# Altium footprint library Capacitor_THT.PcbLib: 378 footprints (part 4 of 24)
Each footprint in its own frame and in the unit in brackets; x right, y up, seen from the top. Pads: shape width x height; smd on the part's side, far side on the other; paste and mask are expansions set on the pad; w line width, h text height; cw(c..) or ccw(c..) is an arc to the next point about the centre after c.
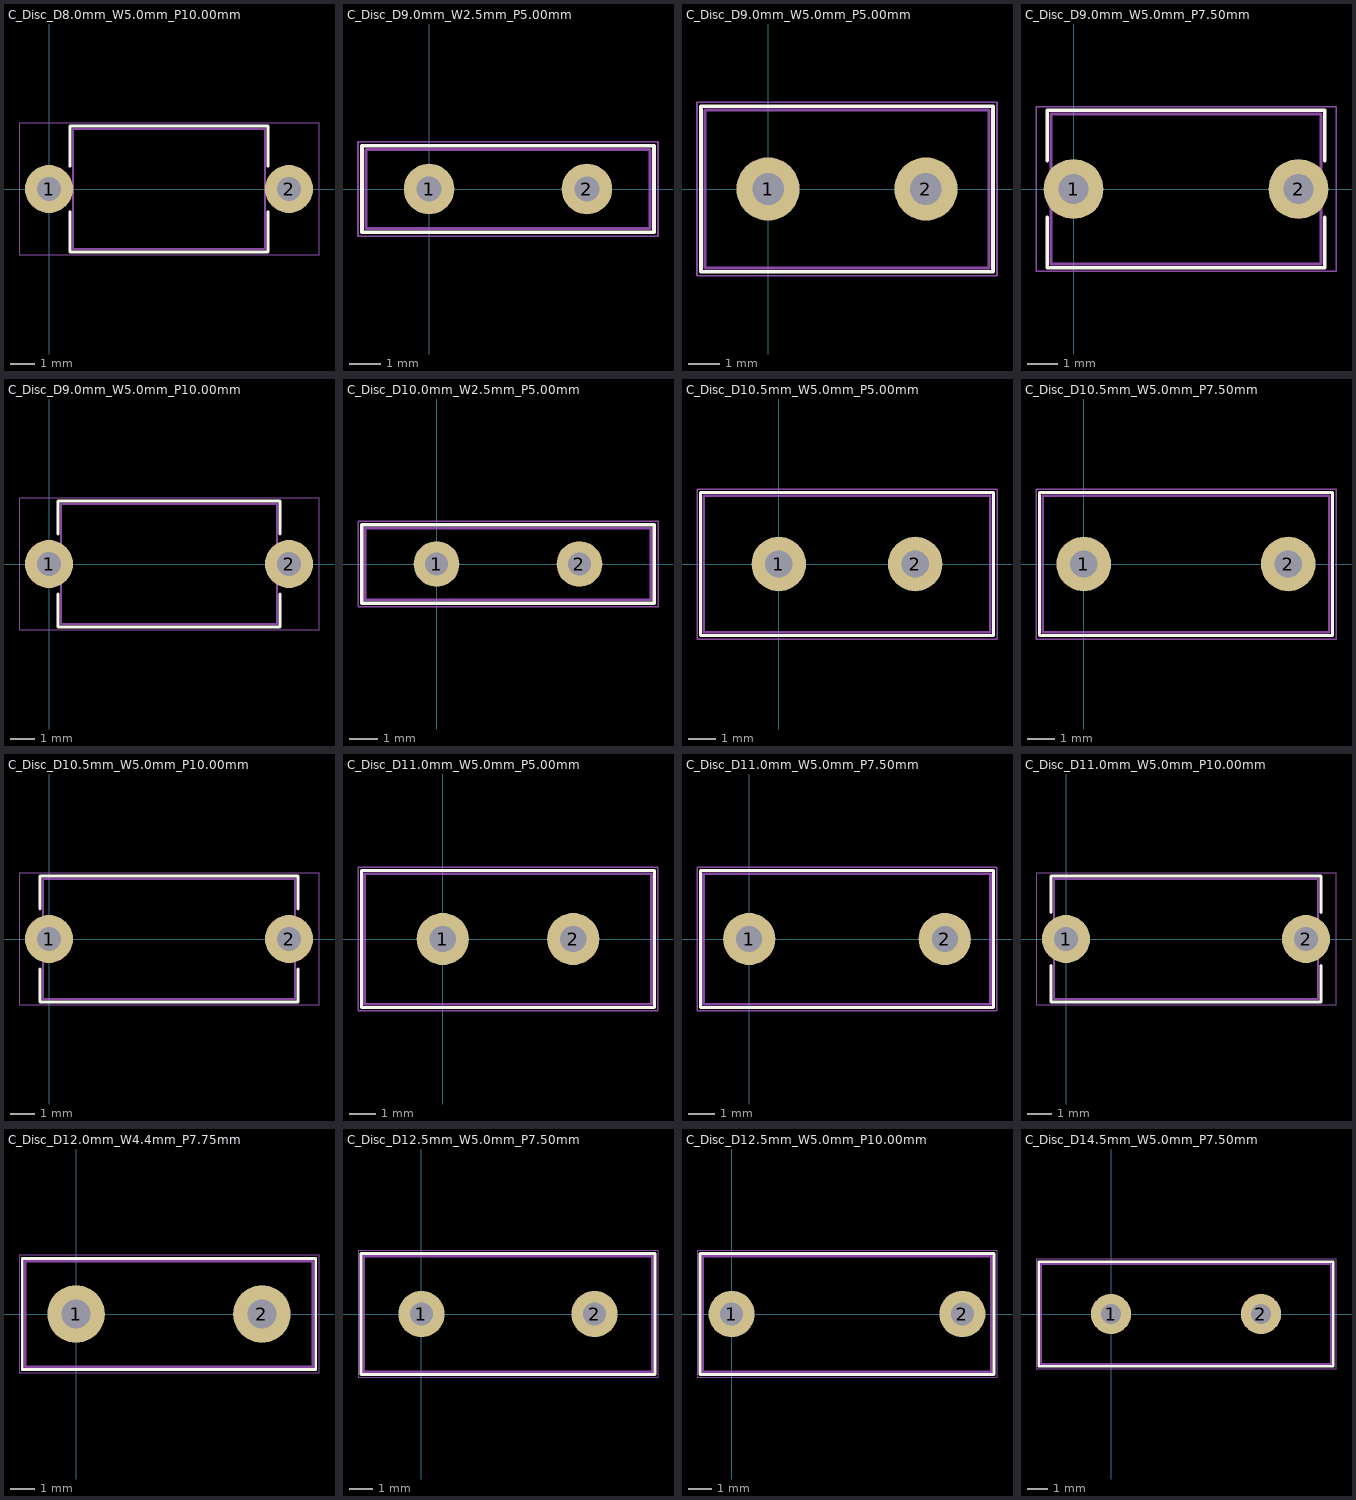
[diagram p3: the footprints below, top view; thin cyan lines are the x and y axes]

## C_Disc_D8.0mm_W5.0mm_P10.00mm [mm]
pads (2):
  round 2 hole 1: 1(0,0) 2(10,0)
F.SilkS:
  lines w0.12: 0.88,-0.946 0.88,-2.62 9.12,-2.62 9.12,-0.946 ; 0.88,0.946 0.88,2.62 9.12,2.62 9.12,0.946
F.CrtYd:
  lines w0.05: -1.25,-2.75 -1.25,2.75 11.25,2.75 11.25,-2.75 -1.25,-2.75
F.Fab:
  lines w0.1: 1,-2.5 1,2.5 9,2.5 9,-2.5 1,-2.5
  text "'.Designator'" at 0.953,-0.84 h1

## C_Disc_D9.0mm_W2.5mm_P5.00mm [mm]
pads (2):
  round 1.6 hole 0.8: 1(0,0) 2(5,0)
F.SilkS:
  lines w0.12: -2.12,-1.37 -2.12,1.37 7.12,1.37 7.12,-1.37 -2.12,-1.37
F.CrtYd:
  lines w0.05: -2.25,-1.5 -2.25,1.5 7.25,1.5 7.25,-1.5 -2.25,-1.5
F.Fab:
  lines w0.1: -2,-1.25 -2,1.25 7,1.25 7,-1.25 -2,-1.25
  text "'.Designator'" at -1.547,-0.84 h1

## C_Disc_D9.0mm_W5.0mm_P5.00mm [mm]
pads (2):
  round 2 hole 1: 1(0,0) 2(5,0)
F.SilkS:
  lines w0.12: -2.12,-2.62 7.12,-2.62 7.12,2.62 -2.12,2.62 -2.12,-2.62
F.CrtYd:
  lines w0.05: -2.25,-2.75 -2.25,2.75 7.25,2.75 7.25,-2.75 -2.25,-2.75
F.Fab:
  lines w0.1: -2,-2.5 -2,2.5 7,2.5 7,-2.5 -2,-2.5
  text "'.Designator'" at -1.547,-0.84 h1

## C_Disc_D9.0mm_W5.0mm_P7.50mm [mm]
pads (2):
  round 2 hole 1: 1(0,0) 2(7.5,0)
F.SilkS:
  lines w0.12: -0.87,-0.946 -0.87,-2.62 8.37,-2.62 8.37,-0.946 ; -0.87,0.946 -0.87,2.62 8.37,2.62 8.37,0.946
F.CrtYd:
  lines w0.05: -1.25,-2.75 -1.25,2.75 8.75,2.75 8.75,-2.75 -1.25,-2.75
F.Fab:
  lines w0.1: -0.75,-2.5 8.25,-2.5 8.25,2.5 -0.75,2.5 -0.75,-2.5
  text "'.Designator'" at -0.297,-0.84 h1

## C_Disc_D9.0mm_W5.0mm_P10.00mm [mm]
pads (2):
  round 2 hole 1: 1(0,0) 2(10,0)
F.SilkS:
  lines w0.12: 0.38,-1.256 0.38,-2.62 9.62,-2.62 9.62,-1.256 ; 0.38,1.256 0.38,2.62 9.62,2.62 9.62,1.256
F.CrtYd:
  lines w0.05: -1.25,-2.75 -1.25,2.75 11.25,2.75 11.25,-2.75 -1.25,-2.75
F.Fab:
  lines w0.1: 0.5,-2.5 9.5,-2.5 9.5,2.5 0.5,2.5 0.5,-2.5
  text "'.Designator'" at 0.953,-0.84 h1

## C_Disc_D10.0mm_W2.5mm_P5.00mm [mm]
pads (2):
  round 1.6 hole 0.8: 1(0,0) 2(5,0)
F.SilkS:
  lines w0.12: -2.62,-1.37 7.62,-1.37 7.62,1.37 -2.62,1.37 -2.62,-1.37
F.CrtYd:
  lines w0.05: -2.75,-1.5 7.75,-1.5 7.75,1.5 -2.75,1.5 -2.75,-1.5
F.Fab:
  lines w0.1: -2.5,-1.25 -2.5,1.25 7.5,1.25 7.5,-1.25 -2.5,-1.25
  text "'.Designator'" at -1.547,-0.84 h1

## C_Disc_D10.5mm_W5.0mm_P5.00mm [mm]
pads (2):
  round 2 hole 1: 1(0,0) 2(5,0)
F.SilkS:
  lines w0.12: -2.87,-2.62 -2.87,2.62 7.87,2.62 7.87,-2.62 -2.87,-2.62
F.CrtYd:
  lines w0.05: -3,-2.75 -3,2.75 8,2.75 8,-2.75 -3,-2.75
F.Fab:
  lines w0.1: -2.75,-2.5 -2.75,2.5 7.75,2.5 7.75,-2.5 -2.75,-2.5
  text "'.Designator'" at -1.547,-0.84 h1

## C_Disc_D10.5mm_W5.0mm_P7.50mm [mm]
pads (2):
  round 2 hole 1: 1(0,0) 2(7.5,0)
F.SilkS:
  lines w0.12: -1.62,-2.62 -1.62,2.62 9.12,2.62 9.12,-2.62 -1.62,-2.62
F.CrtYd:
  lines w0.05: -1.75,-2.75 9.25,-2.75 9.25,2.75 -1.75,2.75 -1.75,-2.75
F.Fab:
  lines w0.1: -1.5,-2.5 -1.5,2.5 9,2.5 9,-2.5 -1.5,-2.5
  text "'.Designator'" at -0.297,-0.84 h1

## C_Disc_D10.5mm_W5.0mm_P10.00mm [mm]
pads (2):
  round 2 hole 1: 1(0,0) 2(10,0)
F.SilkS:
  lines w0.12: -0.37,-1.256 -0.37,-2.62 10.37,-2.62 10.37,-1.256 ; -0.37,1.256 -0.37,2.62 10.37,2.62 10.37,1.256
F.CrtYd:
  lines w0.05: -1.25,-2.75 11.25,-2.75 11.25,2.75 -1.25,2.75 -1.25,-2.75
F.Fab:
  lines w0.1: -0.25,-2.5 10.25,-2.5 10.25,2.5 -0.25,2.5 -0.25,-2.5
  text "'.Designator'" at 0.953,-0.84 h1

## C_Disc_D11.0mm_W5.0mm_P5.00mm [mm]
pads (2):
  round 2 hole 1: 1(0,0) 2(5,0)
F.SilkS:
  lines w0.12: -3.12,-2.62 -3.12,2.62 8.12,2.62 8.12,-2.62 -3.12,-2.62
F.CrtYd:
  lines w0.05: -3.25,-2.75 8.25,-2.75 8.25,2.75 -3.25,2.75 -3.25,-2.75
F.Fab:
  lines w0.1: -3,-2.5 8,-2.5 8,2.5 -3,2.5 -3,-2.5
  text "'.Designator'" at -1.547,-0.84 h1

## C_Disc_D11.0mm_W5.0mm_P7.50mm [mm]
pads (2):
  round 2 hole 1: 1(0,0) 2(7.5,0)
F.SilkS:
  lines w0.12: -1.87,-2.62 -1.87,2.62 9.37,2.62 9.37,-2.62 -1.87,-2.62
F.CrtYd:
  lines w0.05: -2,-2.75 -2,2.75 9.5,2.75 9.5,-2.75 -2,-2.75
F.Fab:
  lines w0.1: -1.75,-2.5 9.25,-2.5 9.25,2.5 -1.75,2.5 -1.75,-2.5
  text "'.Designator'" at -0.297,-0.84 h1

## C_Disc_D11.0mm_W5.0mm_P10.00mm [mm]
pads (2):
  round 2 hole 1: 1(0,0) 2(10,0)
F.SilkS:
  lines w0.12: -0.62,-1.101 -0.62,-2.62 10.62,-2.62 10.62,-1.101 ; -0.62,1.101 -0.62,2.62 10.62,2.62 10.62,1.101
F.CrtYd:
  lines w0.05: -1.25,-2.75 -1.25,2.75 11.25,2.75 11.25,-2.75 -1.25,-2.75
F.Fab:
  lines w0.1: -0.5,-2.5 10.5,-2.5 10.5,2.5 -0.5,2.5 -0.5,-2.5
  text "'.Designator'" at 0.953,-0.84 h1

## C_Disc_D12.0mm_W4.4mm_P7.75mm [mm]
pads (2):
  round 2.4 hole 1.2: 1(0,0) 2(7.75,0)
F.SilkS:
  lines w0.12: -2.245,-2.321 -2.245,2.321 9.995,2.321 9.995,-2.321 -2.245,-2.321
F.CrtYd:
  lines w0.05: -2.38,-2.45 10.13,-2.45 10.13,2.45 -2.38,2.45 -2.38,-2.45
F.Fab:
  lines w0.1: -2.125,-2.2 -2.125,2.2 9.875,2.2 9.875,-2.2 -2.125,-2.2
  text "'.Designator'" at -0.172,-0.84 h1

## C_Disc_D12.5mm_W5.0mm_P7.50mm [mm]
pads (2):
  round 2 hole 1: 1(0,0) 2(7.5,0)
F.SilkS:
  lines w0.12: -2.62,-2.62 10.12,-2.62 10.12,2.62 -2.62,2.62 -2.62,-2.62
F.CrtYd:
  lines w0.05: -2.75,-2.75 -2.75,2.75 10.25,2.75 10.25,-2.75 -2.75,-2.75
F.Fab:
  lines w0.1: -2.5,-2.5 10,-2.5 10,2.5 -2.5,2.5 -2.5,-2.5
  text "'.Designator'" at -0.297,-0.84 h1

## C_Disc_D12.5mm_W5.0mm_P10.00mm [mm]
pads (2):
  round 2 hole 1: 1(0,0) 2(10,0)
F.SilkS:
  lines w0.12: -1.37,-2.62 11.37,-2.62 11.37,2.62 -1.37,2.62 -1.37,-2.62
F.CrtYd:
  lines w0.05: -1.5,-2.75 -1.5,2.75 11.5,2.75 11.5,-2.75 -1.5,-2.75
F.Fab:
  lines w0.1: -1.25,-2.5 -1.25,2.5 11.25,2.5 11.25,-2.5 -1.25,-2.5
  text "'.Designator'" at 0.953,-0.84 h1

## C_Disc_D14.5mm_W5.0mm_P7.50mm [mm]
pads (2):
  round 2 hole 1: 1(0,0) 2(7.5,0)
F.SilkS:
  lines w0.12: -3.62,-2.62 11.12,-2.62 11.12,2.62 -3.62,2.62 -3.62,-2.62
F.CrtYd:
  lines w0.05: -3.75,-2.75 11.25,-2.75 11.25,2.75 -3.75,2.75 -3.75,-2.75
F.Fab:
  lines w0.1: -3.5,-2.5 -3.5,2.5 11,2.5 11,-2.5 -3.5,-2.5
  text "'.Designator'" at -0.297,-0.84 h1